# Altium schematic symbol library 3pinConnector.SchLib: 40 symbols
Pins are listed as number, name and electrical type; pins without a type are passive.

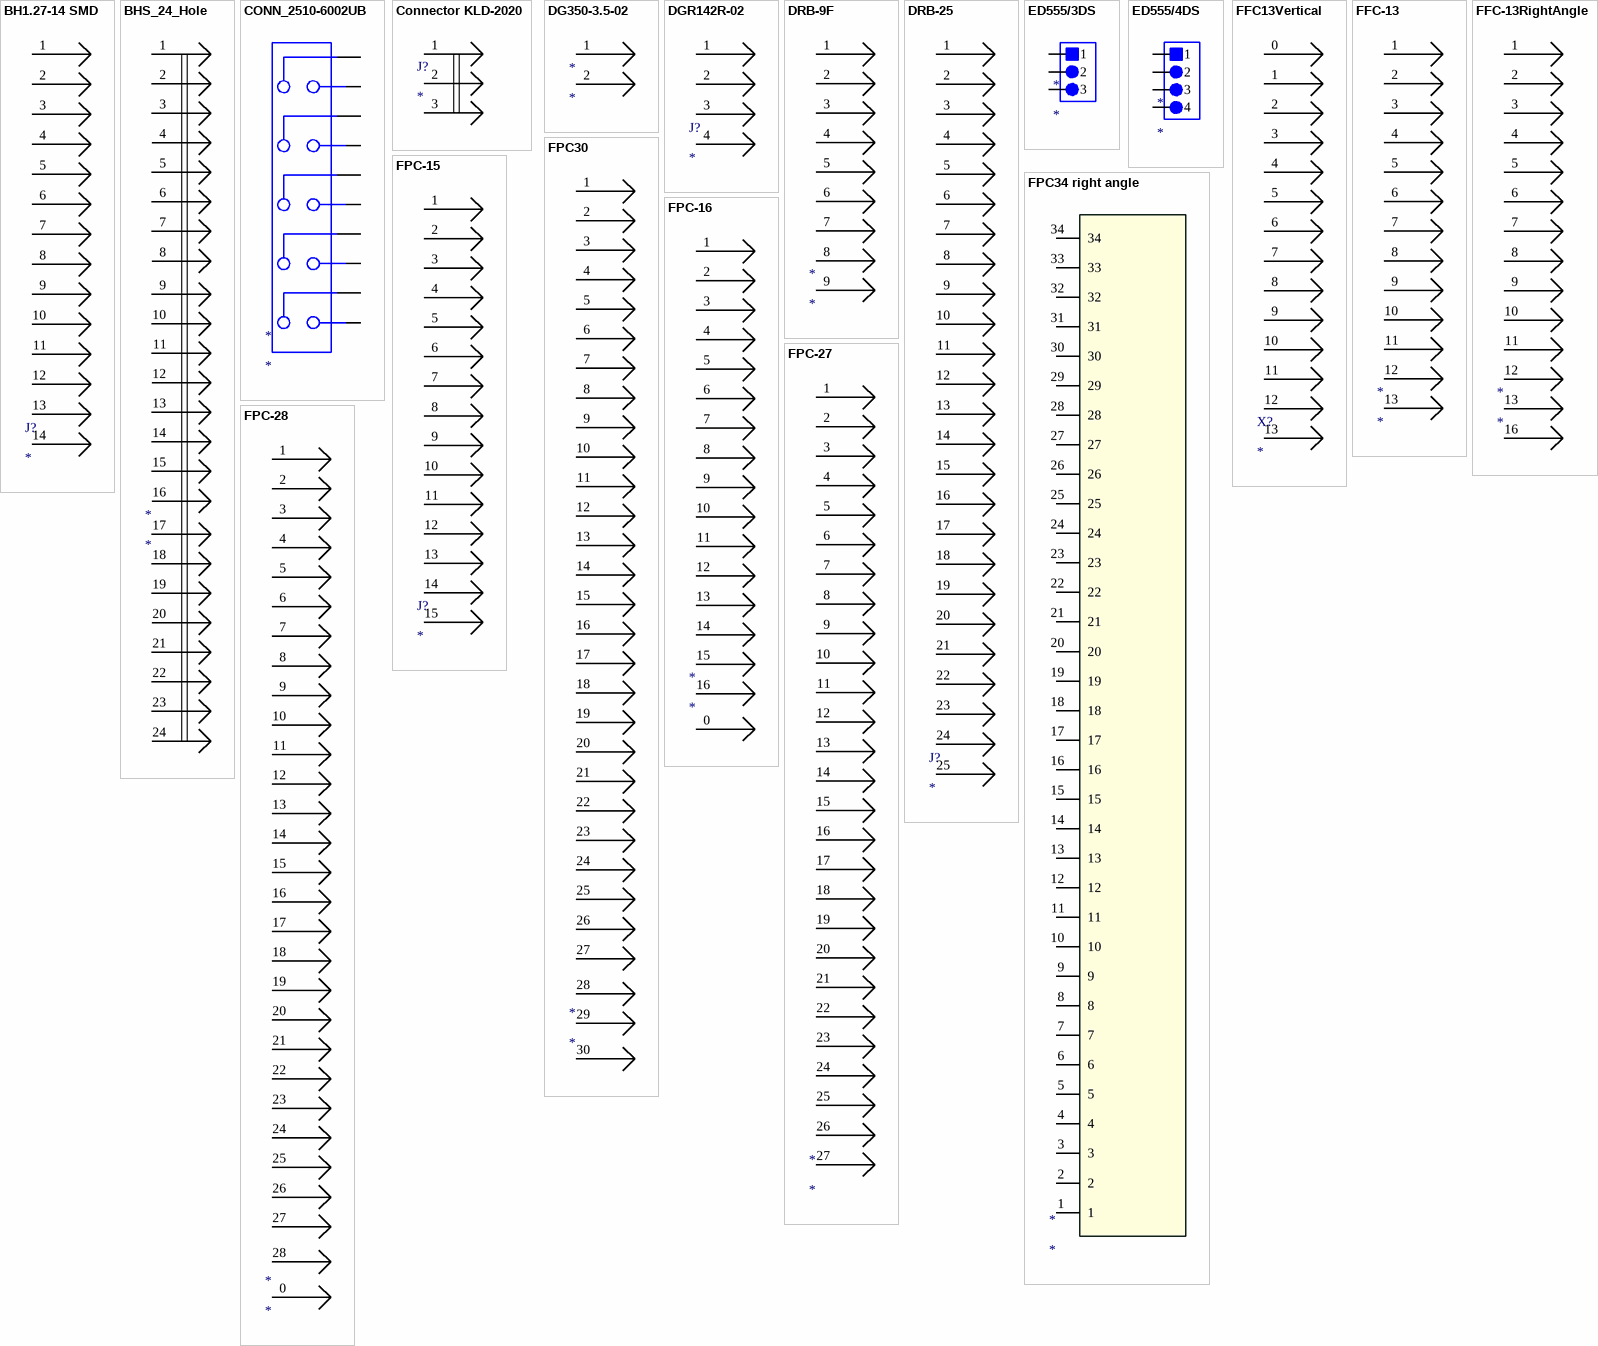
[diagram p0: symbols BH1.27-14 SMD to FPC-28]

## BH1.27-14 SMD
designator J?
footprint BH1.27-14 SMD
pins: 1, 2, 3, 4, 5, 6, 7, 8, 9, 10, 11, 12, 13, 14

## BHS_24_Hole
designator *
footprint BHS-24_HOLE
pins: 1, 2, 3, 4, 5, 6, 7, 8, 9 1, 10 2, 11 3, 12 4, 13 5, 14 6, 15 7, 16 1, 17 1, 18 2, 19 3, 20 4, 21 5, 22 6, 23 7, 24 8

## CONN_2510-6002UB
designator *
footprint CONN_2510-6002UB
pins: 1, 2, 3, 4, 5, 6, 7, 8, 9, 10

## Connector KLD-2020
designator J?
KLD-2020
footprint KLD-2020
pins: 1, 2, 3

## DG350-3.5-02
designator *
footprint DG350-3.5-02
pins: 1, 2

## DGR142R-02
designator J?
footprint DG142R-02
pins: 1, 2, 3, 4

## DRB-9F
designator *
footprint DRB- 9F
pins: 1, 2, 3, 4, 5, 6, 7, 8, 9

## DRB-25
designator J?
footprint DRB-25
pins: 1, 2, 3, 4, 5, 6, 7, 8, 9, 10, 11, 12, 13, 14, 15, 16, 17, 18, 19, 20, 21, 22, 23, 24, 25

## ED555/3DS
designator *
pins: 1, 2, 3

## ED555/4DS
designator *
pins: 1, 2, 3, 4

## FFC13Vertical
designator X?
footprint FFC13 Vertical
pins: 0, 1, 2, 3, 4, 5, 6, 7, 8, 9, 10, 11, 12, 13

## FFC-13
designator *
footprint FFC-13 (1.00mm Pitch Easy-On FFC/FPC Connector, Surface Mount, Vertical, Non-ZIF, Tin (Sn) Plating, 13 Circuits)
pins: 1, 2, 3, 4, 5, 6, 7, 8, 9, 10, 11, 12, 13

## FFC-13RightAngle
designator *
footprint FPC-13RightAngle
pins: 1, 2, 3, 4, 5, 6, 7, 8, 9, 10, 11, 12, 13, 16 GND

## FPC30
designator *
footprint FFC/FPC 30
pins: 1, 2, 3, 4, 5, 6, 7, 8, 9, 10, 11, 12, 13, 14, 15, 16, 17, 18, 19, 20, 21, 22, 23, 24, 25, 26, 27, 28, 29, 30

## FPC34 right angle
designator *
footprint fpcmolex34
pins: 1, 2, 3, 4, 5, 6, 7, 8, 9, 10, 11, 12, 13, 14, 15, 16, 17, 18, 19, 20, 21, 22, 23, 24, 25, 26, 27, 28, 29, 30, 31, 32, 33, 34

## FPC-15
designator J?
footprint FPC-15
pins: 1, 2, 3, 4, 5, 6, 7, 8, 9, 10, 11, 12, 13, 14, 15

## FPC-16
designator *
footprint FPC-16
pins: 0 GND, 1, 2, 3, 4, 5, 6, 7, 8, 9, 10, 11, 12, 13, 14, 15, 16

## FPC-27
designator *
pins: 1, 2, 3, 4, 5, 6, 7, 8, 9, 10, 11, 12, 13, 14, 15, 16, 17, 18, 19, 20, 21, 22, 23, 24, 25, 26, 27

## FPC-28
designator *
footprint FPC-28
pins: 0 GND, 1, 2, 3, 4, 5, 6, 7, 8, 9, 10, 11, 12, 13, 14, 15, 16, 17, 18, 19, 20, 21, 22, 23, 24, 25, 26, 27, 28

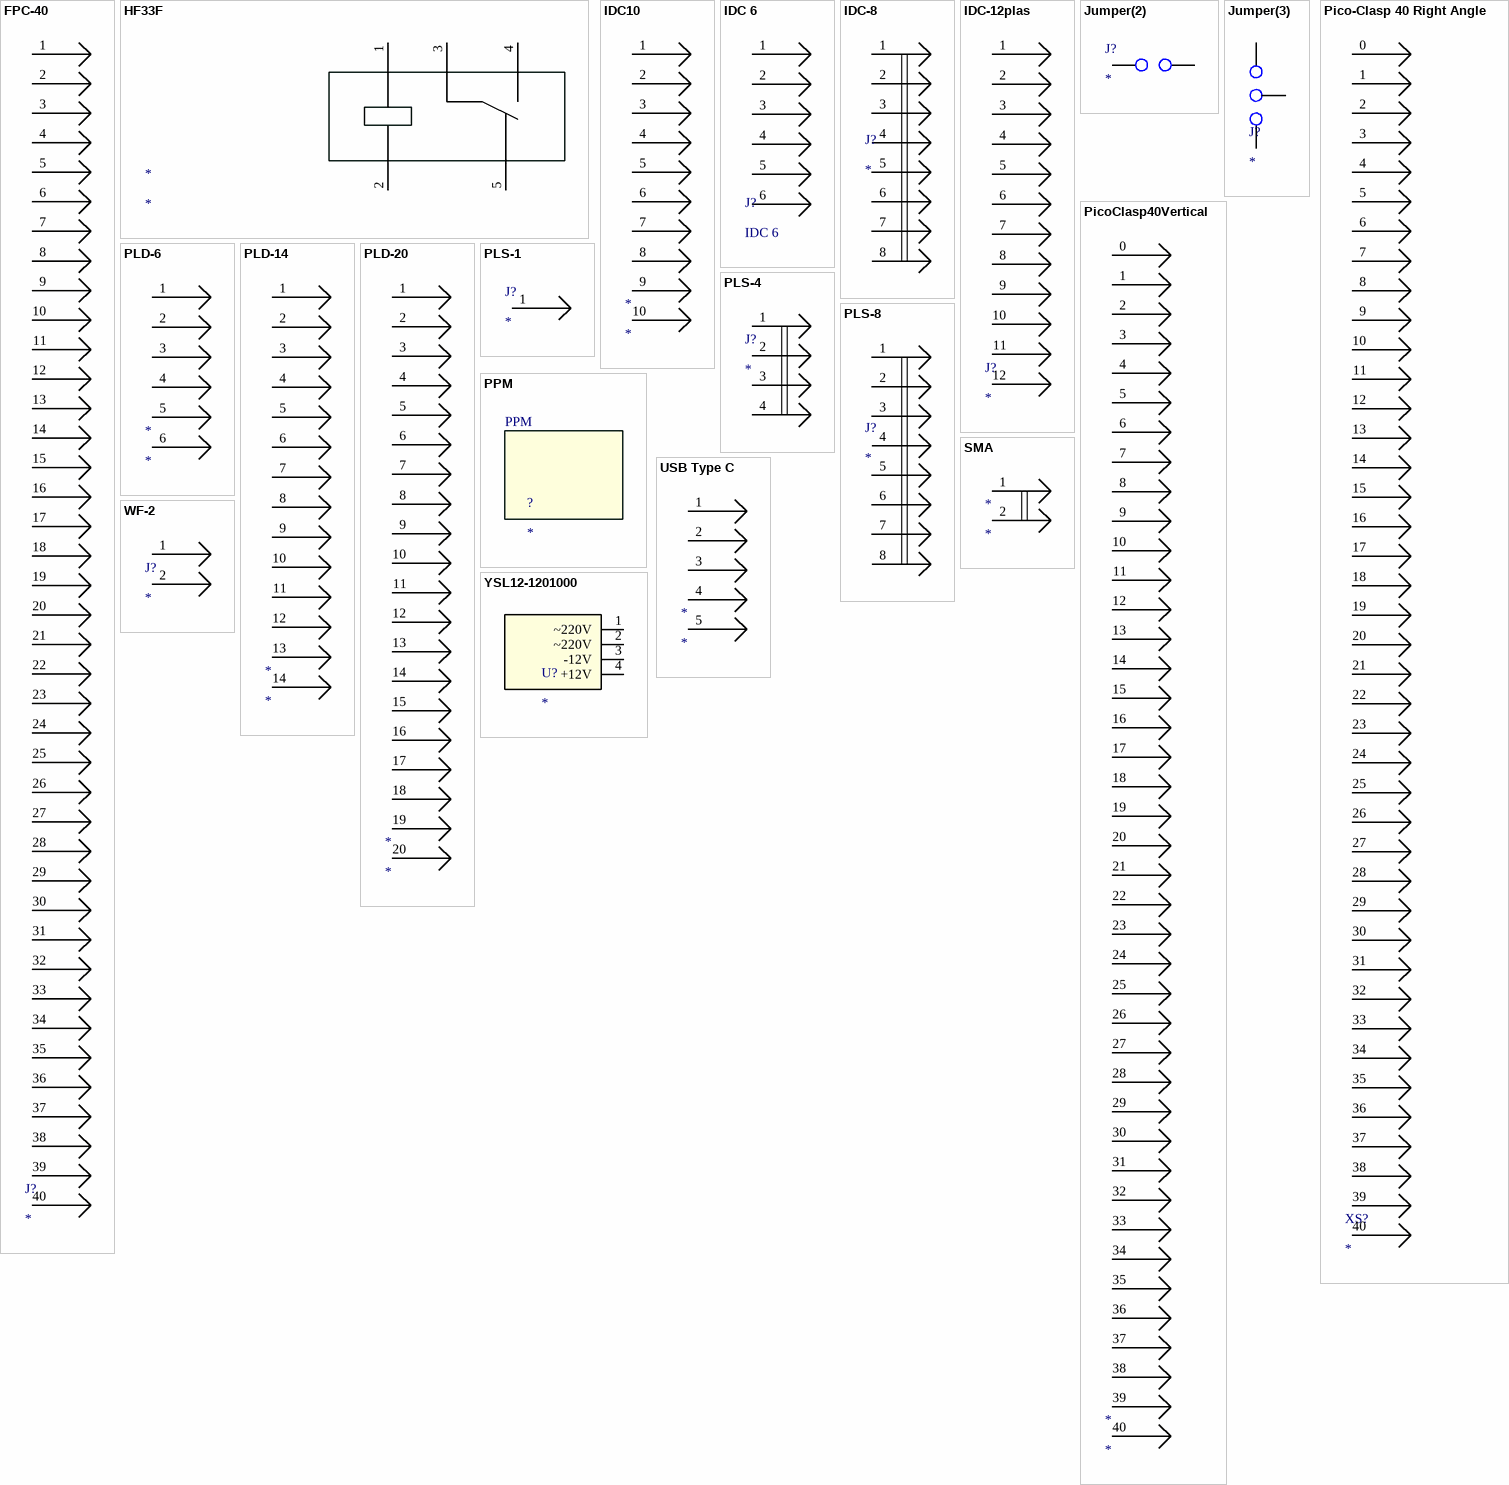
[diagram p1: symbols FPC-40 to YSL12-1201000]

## FPC-40
designator J?
footprint FPC-40
pins: 1, 2, 3, 4, 5, 6, 7, 8, 9, 10, 11, 12, 13, 14, 15, 16, 17, 18, 19, 20, 21, 22, 23, 24, 25, 26, 27, 28, 29, 30, 31, 32, 33, 34, 35, 36, 37, 38, 39, 40

## HF33F
designator *
footprint HF33F
pins: 1 ReLe, 2 REle, 3 GND, 4 GND, 5 GND

## IDC10
designator *
footprint IDC10
pins: 1, 2, 3, 4, 5, 6, 7, 8, 9, 10

## IDC 6
designator J?
footprint IDC-6
pins: 1, 2, 3, 4, 5, 6

## IDC-8
designator J?
footprint IDC-8
pins: 1, 2, 3, 4, 5, 6, 7, 8

## IDC-12plas
designator J?
footprint IDC_12plas
pins: 1, 2, 3, 4, 5, 6, 7, 8, 9, 10, 11, 12

## Jumper(2)
designator J?
footprint PEC02SAAN
pins: 1, 2

## Jumper(3)
designator J?
footprint PEC03SAAN
pins: 1, 2, 3

## Pico-Clasp 40 Right Angle
designator XS?
footprint Pico-Clasp 40 (2035674007 Molex)
pins: 0 GND, 1, 2, 3, 4, 5, 6, 7, 8, 9, 10, 11, 12, 13, 14, 15, 16, 17, 18, 19, 20, 21, 22, 23, 24, 25, 26, 27, 28, 29, 30, 31, 32, 33, 34, 35, 36, 37, 38, 39, 40

## PicoClasp40Vertical
designator *
footprint PICO-Clasp 40 Vertical
pins: 0 GND, 1, 2, 3, 4, 5, 6, 7, 8, 9, 10, 11, 12, 13, 14, 15, 16, 17, 18, 19, 20, 21, 22, 23, 24, 25, 26, 27, 28, 29, 30, 31, 32, 33, 34, 35, 36, 37, 38, 39, 40

## PLD-6
designator *
footprint PLD-6
pins: 1, 2, 3, 4, 5, 6

## PLD-14
designator *
footprint PLD-14
pins: 1, 2, 3, 4, 5, 6, 7, 8, 9, 10, 11, 12, 13, 14

## PLD-20
designator *
footprint PLD-20
pins: 1, 2, 3, 4, 5, 6, 7, 8, 9, 10, 11, 12, 13, 14, 15, 16, 17, 18, 19, 20

## PLS-1
designator J?
footprint PLS-1
pins: 1

## PLS-4
designator J?
footprint PLS-4
pins: 1, 2, 3, 4

## PLS-8
designator J?
footprint PLS-8
pins: 1, 2, 3, 4, 5, 6, 7, 8

## PPM
designator ?
footprint StorkTale

## SMA
designator *
footprint 5-1814400-1 (TE, SMA Connector Jack, Female Socket 50 Ohm Through Hole, Right Angle Solder)
pins: 1, 2

## USB Type C
designator *
footprint 47491-0001
pins: 1, 2, 3, 4, 5

## WF-2
designator J?
footprint WF-2
pins: 1, 2

## YSL12-1201000
designator U?
Led Power Supply. In 180-240V, Out 12V
footprint YSL12-1201000
pins: 1 ~220V, 2 ~220V, 3 -12V, 4 +12V